# EAGLE library part CS5490 (library smartplug)
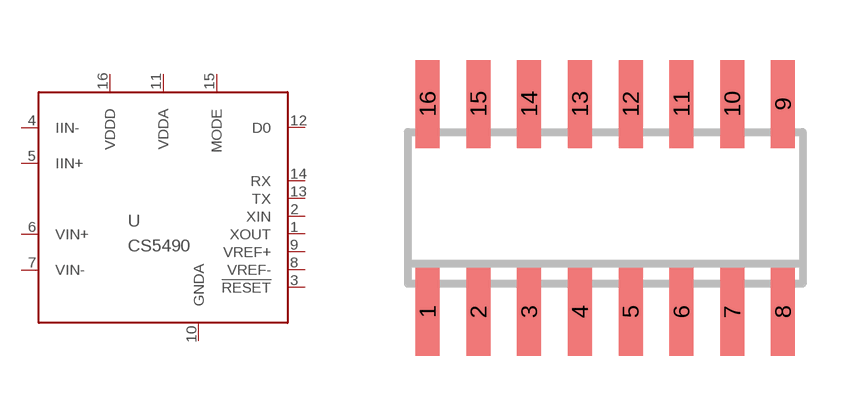
[diagram p0: symbol with the pads of SOIC16N; footprint SOIC16N]

Designator prefix -

## CS5490 (MANUF_PART#: CS5490-ISZR; MOUSER_OC: 777-CS5490-ISZR)  [SOIC16N]
1  XOUT  out
2  XIN  in
3  !RESET  in
4  IIN-  in
5  IIN+  in
6  VIN+  in
7  VIN-  in
8  VREF-  in
9  VREF+  out
10  GNDA  pwr
11  VDDA  in
12  D0  out
13  TX  out
14  RX  in
15  MODE  in
16  VDDD  pwr

## Footprint SOIC16N (pad centres in mm)
SMALL OUTLINE INTEGRATED CIRCUIT
smd 0.6 x 2.2: 1 -4.445,-2.6; 2 -3.175,-2.6; 3 -1.905,-2.6; 4 -0.635,-2.6; 5 0.635,-2.6; 6 1.905,-2.6; 7 3.175,-2.6; 8 4.445,-2.6; 9 4.445,2.6; 10 3.175,2.6; 11 1.905,2.6; 12 0.635,2.6; 13 -0.635,2.6; 14 -1.905,2.6; 15 -3.175,2.6; 16 -4.445,2.6